# EAGLE library part LM25118 (library texas)
Wide Voltage Range Buck-Boost Controller
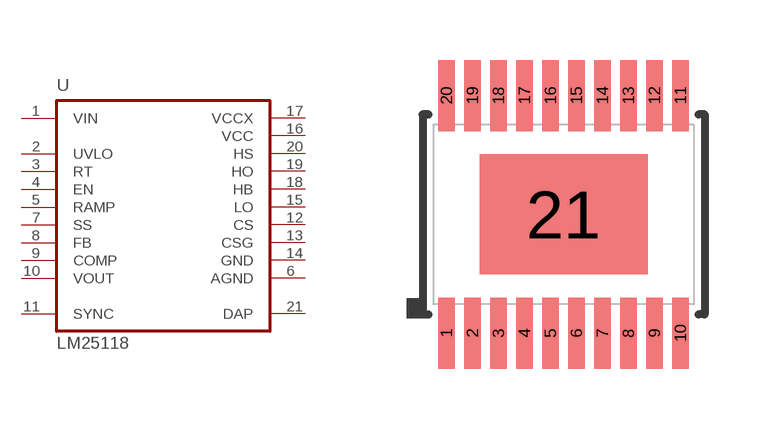
[diagram p91: symbol with the pads of HTSSOP20; footprint HTSSOP20]

Designator prefix U

## LM25118  [HTSSOP20]
1  VIN  in
2  UVLO  in
3  RT  in
4  EN  in
5  RAMP  in
6  AGND  in
7  SS  in
8  FB  in
9  COMP  pas
10  VOUT  pas
11  SYNC  in
12  CS  in
13  CSG  in
14  GND  in
15  LO  out
16  VCC  out
17  VCCX  in
18  HB  in
19  HO  out
20  HS  in
21  DAP

## Footprint HTSSOP20 (pad centres in mm)
HTTSSOP20 (PWP0020A) 4.40mm width, exposed pad
smd 0.42 x 1.78: 1 -2.925,-2.97; 2 -2.275,-2.97; 3 -1.625,-2.97; 4 -0.975,-2.97; 5 -0.325,-2.97; 6 0.325,-2.97; 7 0.975,-2.97; 8 1.625,-2.97; 9 2.275,-2.97; 10 2.925,-2.97; 11 2.925,2.97; 12 2.275,2.97; 13 1.625,2.97; 14 0.975,2.97; 15 0.325,2.97; 16 -0.325,2.97; 17 -0.975,2.97; 18 -1.625,2.97; 19 -2.275,2.97; 20 -2.925,2.97
smd 4.2 x 3: 21 0,0